# Altium integrated library Big_Library_Thyristor.IntLib: 2 symbols
Pins are listed as number, name and electrical type; pins without a type are passive.

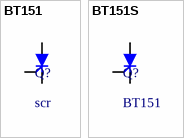
[diagram p0: symbols BT151 to BT151S]

## BT151
designator Q?, comment scr
Voltage Rating: 500V; Irms: 12A; Igate: 2-15mA
footprint BT151-TO220AB
pins: A, C, G

## BT151S
designator Q?, comment BT151
Voltage Rating: 500V; Irms: 7.5A; Igate: 2-15mA; ComponentLink1Description: Link; ComponentLink1URL: https://ozdisan.com/guc-yari-iletkenleri/tristorler/discrete-tristorler/BT151S-500R118/982409; Package: DPAK
footprint TO-252 DPAK (DPAK, Body 9.94x6.56mm)
pins: 1 C, 2 A, 3 G